# Altium footprint library servo motor footprintPcbLib1.PcbLib: 1 footprints
Each footprint in its own frame and in the unit in brackets; x right, y up, seen from the top. Pads: shape width x height; smd on the part's side, far side on the other; paste and mask are expansions set on the pad; w line width, h text height; cw(c..) or ccw(c..) is an arc to the next point about the centre after c.
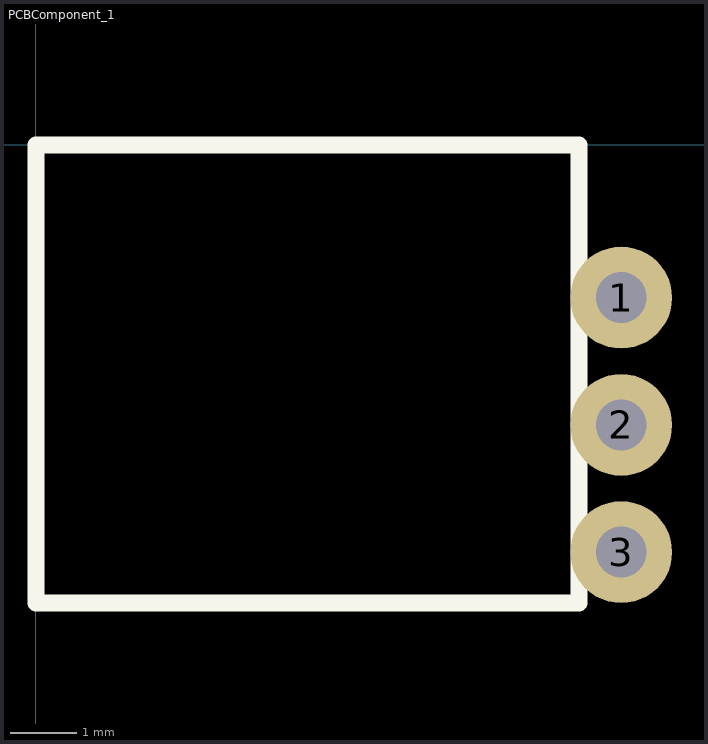
[diagram p0: the footprint, top view; thin cyan lines are the x and y axes]

## PCBComponent_1 [mil]
pads (3):
  round 60 hole 30: 1(345,-90) 2(345,-165) 3(345,-240)
Top Overlay:
  lines w10: 0,-270 320,-270 320,0 0,0 0,-270